# EAGLE library part MTXDOT-EU1-A00-1 (library mbed-HDK-MF-MULTITECH)
Multitech xDOT LORA MODULE UFL/TRC 868MHz for Europe
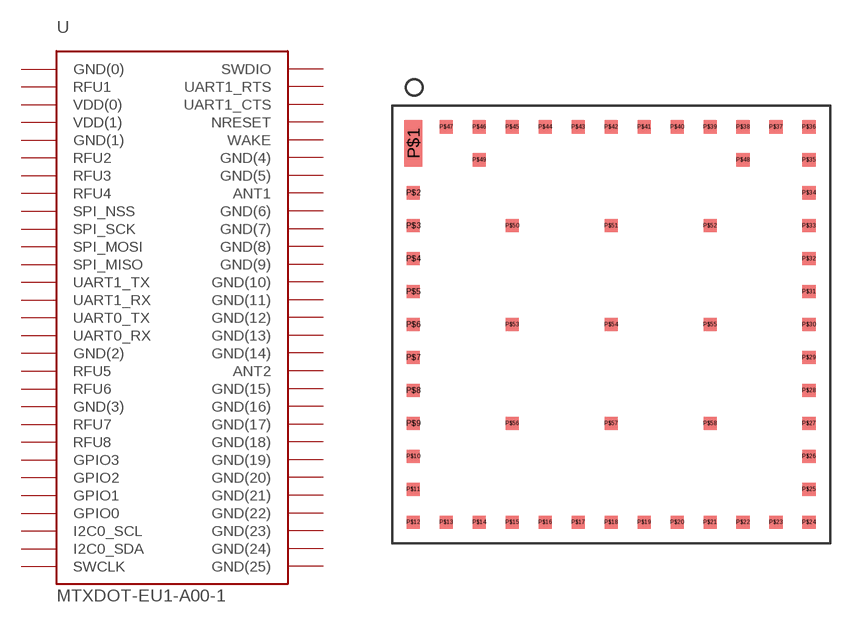
[diagram p0: symbol with the pads of MTXDOT-EU1/NA1-A00-1; footprint MTXDOT-EU1/NA1-A00-1]

Designator prefix U

## MTXDOT-EU1-A00-1 (MF: Multi-Tech Systems Inc.; MFN: MTXDOT-EU1-A00-1; OC-DIGIKEY: 591-1292-ND)  [MTXDOT-EU1/NA1-A00-1]
P$1  GND(0)
P$2  RFU1
P$3  VDD(0)
P$4  VDD(1)
P$5  GND(1)
P$6  RFU2
P$7  RFU3
P$8  RFU4
P$9  SPI_NSS
P$10  SPI_SCK
P$11  SPI_MOSI
P$12  SPI_MISO
P$13  UART1_TX
P$14  UART1_RX
P$15  UART0_TX
P$16  UART0_RX
P$17  GND(2)
P$18  RFU5
P$19  RFU6
P$20  GND(3)
P$21  RFU7
P$22  RFU8
P$23  GPIO3
P$24  GPIO2
P$25  GPIO1
P$26  GPIO0
P$27  I2C0_SCL
P$28  I2C0_SDA
P$29  SWCLK
P$30  SWDIO
P$31  UART1_RTS
P$32  UART1_CTS
P$33  NRESET
P$34  WAKE
P$35  GND(4)
P$36  GND(5)
P$37  ANT1
P$38  GND(6)
P$39  GND(7)
P$40  GND(8)
P$41  GND(9)
P$42  GND(10)
P$43  GND(11)
P$44  GND(12)
P$45  GND(13)
P$46  GND(14)
P$47  ANT2
P$48  GND(15)
P$49  GND(16)
P$50  GND(17)
P$51  GND(18)
P$52  GND(19)
P$53  GND(20)
P$54  GND(21)
P$55  GND(22)
P$56  GND(23)
P$57  GND(24)
P$58  GND(25)

## Footprint MTXDOT-EU1/NA1-A00-1 (pad centres in mm)
smd 0.97 x 2.49: P$1 0,0
smd 0.71 x 0.71: P$2 0,-2.67; P$3 0,-4.45; P$4 0,-6.23; P$5 0,-8.01; P$6 0,-9.79; P$7 0,-11.57; P$8 0,-13.35; P$9 0,-15.13; P$10 0,-16.91; P$11 0,-18.69; P$12 0,-20.47; P$13 1.78,-20.47; P$14 3.56,-20.47; P$15 5.34,-20.47; P$16 7.12,-20.47; P$17 8.9,-20.47; P$18 10.68,-20.47; P$19 12.46,-20.47; P$20 14.24,-20.47; P$21 16.02,-20.47; P$22 17.8,-20.47; P$23 19.58,-20.47; P$24 21.36,-20.47; P$25 21.36,-18.69; P$26 21.36,-16.91; P$27 21.36,-15.13; P$28 21.36,-13.35; P$29 21.36,-11.57; P$30 21.36,-9.79; P$31 21.36,-8.01; P$32 21.36,-6.23; P$33 21.36,-4.45; P$34 21.36,-2.67; P$35 21.36,-0.89; P$36 21.36,0.89; P$37 19.58,0.89; P$38 17.8,0.89; P$39 16.02,0.89; P$40 14.24,0.89; P$41 12.46,0.89; P$42 10.68,0.89; P$43 8.9,0.89; P$44 7.12,0.89; P$45 5.34,0.89; P$46 3.56,0.89; P$47 1.78,0.89; P$48 17.8,-0.89; P$49 3.56,-0.89; P$50 5.34,-4.45; P$51 10.68,-4.45; P$52 16.02,-4.45; P$53 5.34,-9.79; P$54 10.68,-9.79; P$55 16.02,-9.79; P$56 5.34,-15.13; P$57 10.68,-15.13; P$58 16.02,-15.13